# Altium footprint library Con DIN 41612.PcbLib: 47 footprints (part 1 of 3)
Each footprint in its own frame and in the unit in brackets; x right, y up, seen from the top. Pads: shape width x height; smd on the part's side, far side on the other; paste and mask are expansions set on the pad; w line width, h text height; cw(c..) or ccw(c..) is an arc to the next point about the centre after c.
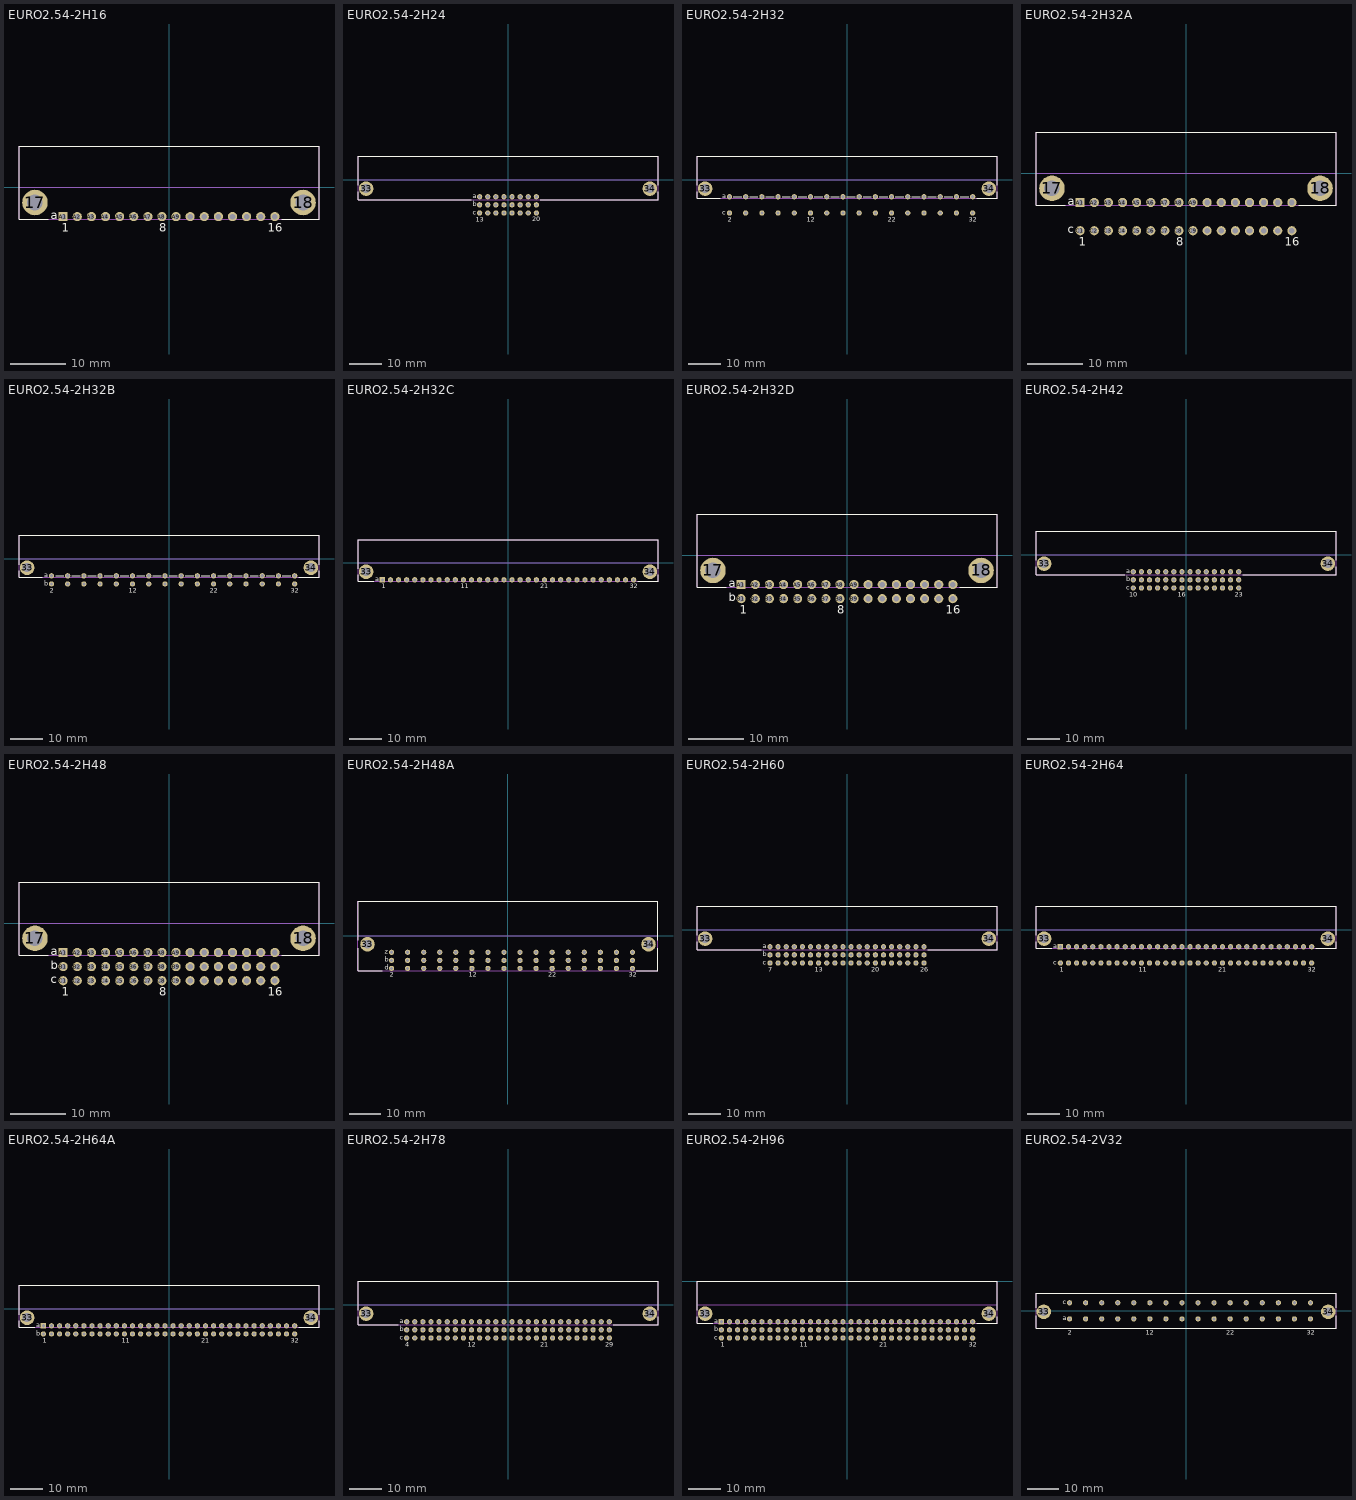
[diagram p0: the footprints below, top view; thin cyan lines are the x and y axes]

## EURO2.54-2H16 [mm] "Connector; DIN 41612, Type 2B, Thru-Hole; Row a, 16 Position; Right Angle"
height 8.6
pads (18):
  round 4.6 hole 2.8: 17(-24.13,-2.76) 18(24.13,-2.76)
  rect 1.65x1.65 hole 1: A1(-19.05,-5.3)
  round 1.65 hole 1: A2(-16.51,-5.3) A3(-13.97,-5.3) A4(-11.43,-5.3) A5(-8.89,-5.3) A6(-6.35,-5.3) A7(-3.81,-5.3) A8(-1.27,-5.3) A9(1.27,-5.3) A10(3.81,-5.3) A11(6.35,-5.3) A12(8.89,-5.3) A13(11.43,-5.3) A14(13.97,-5.3) A15(16.51,-5.3) A16(19.05,-5.3)
Top Overlay:
  lines w0.2: -21.75,-5.8 -27,-5.8 -27,7.34 27,7.34 27,-5.8 20.275,-5.8
  text "16" at 17.8,-8 h1.5
  text "8" at -1.77,-8 h1.5
  text "a" at -21.26,-5.8 h1.5
  text "1" at -19.3,-8 h1.5
Mechanical 1:
  lines w0.1: -27,0 27,0
  text "PCB Edge" at -26.15,0.5 h0.6
Mechanical 13:
  lines w0.1: -27,-5.8 27,-5.8 27,7.34 -27,7.34 -27,-5.8
3D body: height 8.6, standoff 0, extent -27,-5.8 27,7.34

## EURO2.54-2H24 [mm] "Connector; DIN 41612, Type M, Thru-Hole; Rows a+b+c, 24 Position; Right Angle"
height 11.1
pads (26):
  round 4.6 hole 2.8: 33(-44.45,-2.76) 34(44.45,-2.76)
  round 1.65 hole 1: A13(-8.89,-5.3) A14(-6.35,-5.3) A15(-3.81,-5.3) A16(-1.27,-5.3) A17(1.27,-5.3) A18(3.81,-5.3) A19(6.35,-5.3) A20(8.89,-5.3) B13(-8.89,-7.84) B14(-6.35,-7.84) B15(-3.81,-7.84) B16(-1.27,-7.84) B17(1.27,-7.84) B18(3.81,-7.84) B19(6.35,-7.84) B20(8.89,-7.84) C13(-8.89,-10.38) C14(-6.35,-10.38) C15(-3.81,-10.38) C16(-1.27,-10.38) C17(1.27,-10.38) C18(3.81,-10.38) C19(6.35,-10.38) C20(8.89,-10.38)
Top Overlay:
  lines w0.2: -47,-3.76 -47,-6.3 -11.59,-6.3 ; -47,-1.76 -47,7.34 47,7.34 47,-1.76 ; 10.115,-6.3 47,-6.3 47,-3.76
  text "13" at -10.14,-13.08 h1.5
  text "a" at -11.1,-5.8 h1.5
  text "b" at -11.1,-8.34 h1.5
  text "c" at -11.1,-10.88 h1.5
  text "20" at 7.64,-12.92 h1.5
Mechanical 1:
  lines w0.1: -47,0 47,0
  text "PCB Edge" at -46.47,0.5 h0.6
Mechanical 13:
  lines w0.1: -47,-6.3 -47,7.34 47,7.34 47,-6.3 -47,-6.3
3D body: height 11.1, standoff 0, extent -47,-6.3 47,7.34

## EURO2.54-2H32 [mm] "Connector; DIN 41612, Type C, Thru-Hole; Rows a+c, 32 Position; Right Angle"
height 11.1
pads (34):
  round 4.6 hole 2.8: 33(-44.45,-2.76) 34(44.45,-2.76)
  round 1.65 hole 1: A2(-36.83,-5.3) A4(-31.75,-5.3) A6(-26.67,-5.3) A8(-21.59,-5.3) A10(-16.51,-5.3) A12(-11.43,-5.3) A14(-6.35,-5.3) A16(-1.27,-5.3) A18(3.81,-5.3) A20(8.89,-5.3) A22(13.97,-5.3) A24(19.05,-5.3) A26(24.13,-5.3) A28(29.21,-5.3) A30(34.29,-5.3) A32(39.37,-5.3) C2(-36.83,-10.38) C4(-31.75,-10.38) C6(-26.67,-10.38) C8(-21.59,-10.38) C10(-16.51,-10.38) C12(-11.43,-10.38) C14(-6.35,-10.38) C16(-1.27,-10.38) C18(3.81,-10.38) C20(8.89,-10.38) C22(13.97,-10.38) C24(19.05,-10.38) C26(24.13,-10.38) C28(29.21,-10.38) C30(34.29,-10.38) C32(39.37,-10.38)
Top Overlay:
  lines w0.2: -47,-1.76 -47,7.34 47,7.34 47,-1.76 ; -46.99,-3.76 -46.99,-5.8 -39.69,-5.8 ; -35.605,-5.3 -32.975,-5.3 ; -30.525,-5.3 -27.895,-5.3 ; -25.445,-5.3 -22.815,-5.3 ; -20.365,-5.3 -17.735,-5.3 ; -15.285,-5.3 -12.655,-5.3 ; -10.205,-5.3 -7.575,-5.3 ; -5.125,-5.3 -2.495,-5.3 ; -0.045,-5.3 2.585,-5.3 ; 5.035,-5.3 7.665,-5.3 ; 10.115,-5.3 12.745,-5.3 ; 15.195,-5.3 17.825,-5.3 ; 20.275,-5.3 22.905,-5.3 ; 25.355,-5.3 27.985,-5.3 ; 30.435,-5.3 33.065,-5.3 ; 35.515,-5.3 38.145,-5.3 ; 40.595,-5.8 47,-5.8 47,-3.76
  text "22" at 12.72,-13.08 h1.5
  text "12" at -12.68,-13.08 h1.5
  text "32" at 38.12,-13.08 h1.5
  text "c" at -39.04,-10.88 h1.5
  text "a" at -39.04,-5.8 h1.5
  text "2" at -37.33,-13.08 h1.5
Mechanical 1:
  lines w0.1: -47,0 47,0
  text "PCB Edge" at -46.47,0.5 h0.6
Mechanical 13:
  lines w0.1: -47,-5.8 -47,7.34 47,7.34 47,-5.8 -47,-5.8
3D body: height 11.1, standoff 0, extent -47,-5.8 47,7.34

## EURO2.54-2H32A [mm] "Connector; DIN 41612, Type 2C, Thru-Hole; Rows a+c, 32 Position; Right Angle"
height 11.1
pads (34):
  round 4.6 hole 2.8: 17(-24.13,-2.76) 18(24.13,-2.76)
  rect 1.65x1.65 hole 1: A1(-19.05,-5.3)
  round 1.65 hole 1: A2(-16.51,-5.3) A3(-13.97,-5.3) A4(-11.43,-5.3) A5(-8.89,-5.3) A6(-6.35,-5.3) A7(-3.81,-5.3) A8(-1.27,-5.3) A9(1.27,-5.3) A10(3.81,-5.3) A11(6.35,-5.3) A12(8.89,-5.3) A13(11.43,-5.3) A14(13.97,-5.3) A15(16.51,-5.3) A16(19.05,-5.3) C1(-19.05,-10.38) C2(-16.51,-10.38) C3(-13.97,-10.38) C4(-11.43,-10.38) C5(-8.89,-10.38) C6(-6.35,-10.38) C7(-3.81,-10.38) C8(-1.27,-10.38) C9(1.27,-10.38) C10(3.81,-10.38) C11(6.35,-10.38) C12(8.89,-10.38) C13(11.43,-10.38) C14(13.97,-10.38) C15(16.51,-10.38) C16(19.05,-10.38)
Top Overlay:
  lines w0.2: -21.75,-5.8 -27,-5.8 -27,7.34 27,7.34 27,-5.8 20.275,-5.8
  text "16" at 17.8,-13.08 h1.5
  text "8" at -1.77,-13.08 h1.5
  text "c" at -21.26,-10.88 h1.5
  text "a" at -21.26,-5.8 h1.5
  text "1" at -19.3,-13.08 h1.5
Mechanical 1:
  lines w0.1: -27,0 27,0
  text "PCB Edge" at -26.15,0.5 h0.6
Mechanical 13:
  lines w0.1: -27,-5.8 -27,7.34 27,7.34 27,-5.8 -27,-5.8
3D body: height 11.1, standoff 0, extent -27,-5.8 27,7.34

## EURO2.54-2H32B [mm] "Connector; DIN 41612, Type B, Thru-Hole; Rows a+b, 32 Position; Right Angle"
height 8.6
pads (34):
  round 4.6 hole 2.8: 33(-44.45,-2.76) 34(44.45,-2.76)
  round 1.65 hole 1: A2(-36.83,-5.3) A4(-31.75,-5.3) A6(-26.67,-5.3) A8(-21.59,-5.3) A10(-16.51,-5.3) A12(-11.43,-5.3) A14(-6.35,-5.3) A16(-1.27,-5.3) A18(3.81,-5.3) A20(8.89,-5.3) A22(13.97,-5.3) A24(19.05,-5.3) A26(24.13,-5.3) A28(29.21,-5.3) A30(34.29,-5.3) A32(39.37,-5.3) B2(-36.83,-7.84) B4(-31.75,-7.84) B6(-26.67,-7.84) B8(-21.59,-7.84) B10(-16.51,-7.84) B12(-11.43,-7.84) B14(-6.35,-7.84) B16(-1.27,-7.84) B18(3.81,-7.84) B20(8.89,-7.84) B22(13.97,-7.84) B24(19.05,-7.84) B26(24.13,-7.84) B28(29.21,-7.84) B30(34.29,-7.84) B32(39.37,-7.84)
Top Overlay:
  lines w0.2: -47,-3.76 -47,-5.8 -39.7,-5.8 ; -47,-1.76 -47,7.34 47,7.34 47,-1.76 ; -35.56,-5.3 -32.93,-5.3 ; -30.48,-5.3 -27.85,-5.3 ; -25.4,-5.3 -22.77,-5.3 ; -20.32,-5.3 -17.69,-5.3 ; -15.24,-5.3 -12.61,-5.3 ; -10.16,-5.3 -7.53,-5.3 ; -5.08,-5.3 -2.45,-5.3 ; 0,-5.3 2.63,-5.3 ; 5.08,-5.3 7.71,-5.3 ; 10.16,-5.3 12.79,-5.3 ; 15.24,-5.3 17.87,-5.3 ; 20.32,-5.3 22.95,-5.3 ; 25.4,-5.3 28.03,-5.3 ; 30.48,-5.3 33.11,-5.3 ; 35.56,-5.3 38.19,-5.3 ; 40.595,-5.8 47,-5.8 47,-3.76
  text "2" at -37.33,-10.54 h1.5
  text "a" at -39.04,-5.8 h1.5
  text "b" at -39.04,-8.34 h1.5
  text "32" at 38.12,-10.54 h1.5
  text "12" at -12.68,-10.54 h1.5
  text "22" at 12.72,-10.54 h1.5
Mechanical 1:
  lines w0.1: -47,0 47,0
  text "PCB Edge" at -46.47,0.5 h0.6
Mechanical 13:
  lines w0.1: -47,-5.8 -47,7.34 47,7.34 47,-5.8 -47,-5.8
3D body: height 8.6, standoff 0, extent -47,-5.8 47,7.34

## EURO2.54-2H32C [mm] "Connector; DIN 41612, Type B, Thru-Hole; Row a, 32 Position; Right Angle"
height 8.6
pads (34):
  round 4.6 hole 2.8: 33(-44.45,-2.76) 34(44.45,-2.76)
  rect 1.65x1.65 hole 1: A1(-39.37,-5.3)
  round 1.65 hole 1: A2(-36.83,-5.3) A3(-34.29,-5.3) A4(-31.75,-5.3) A5(-29.21,-5.3) A6(-26.67,-5.3) A7(-24.13,-5.3) A8(-21.59,-5.3) A9(-19.05,-5.3) A10(-16.51,-5.3) A11(-13.97,-5.3) A12(-11.43,-5.3) A13(-8.89,-5.3) A14(-6.35,-5.3) A15(-3.81,-5.3) A16(-1.27,-5.3) A17(1.27,-5.3) A18(3.81,-5.3) A19(6.35,-5.3) A20(8.89,-5.3) A21(11.43,-5.3) A22(13.97,-5.3) A23(16.51,-5.3) A24(19.05,-5.3) A25(21.59,-5.3) A26(24.13,-5.3) A27(26.67,-5.3) A28(29.21,-5.3) A29(31.75,-5.3) A30(34.29,-5.3) A31(36.83,-5.3) A32(39.37,-5.3)
Top Overlay:
  lines w0.2: -47,-3.76 -47,-5.8 -42.07,-5.8 ; -47,-1.76 -47,7.34 47,7.34 47,-1.76 ; 40.595,-5.8 47,-5.8 47,-3.76
  text "21" at 10.18,-8 h1.5
  text "11" at -14.845,-8 h1.5
  text "32" at 38.12,-8 h1.5
  text "a" at -41.58,-5.8 h1.5
  text "1" at -39.62,-8 h1.5
Mechanical 1:
  lines w0.1: -47,0 47,0
  text "PCB Edge" at -46.47,0.5 h0.6
Mechanical 13:
  lines w0.1: -47,-5.8 -47,7.34 47,7.34 47,-5.8 -47,-5.8
3D body: height 8.6, standoff 0, extent -47,-5.8 47,7.34

## EURO2.54-2H32D [mm] "Connector; DIN 41612, Type 2B, Thru-Hole; Rows a+b, 32 Position; Right Angle"
height 8.6
pads (34):
  round 4.6 hole 2.8: 17(-24.13,-2.76) 18(24.13,-2.76)
  rect 1.65x1.65 hole 1: A1(-19.05,-5.3)
  round 1.65 hole 1: A2(-16.51,-5.3) A3(-13.97,-5.3) A4(-11.43,-5.3) A5(-8.89,-5.3) A6(-6.35,-5.3) A7(-3.81,-5.3) A8(-1.27,-5.3) A9(1.27,-5.3) A10(3.81,-5.3) A11(6.35,-5.3) A12(8.89,-5.3) A13(11.43,-5.3) A14(13.97,-5.3) A15(16.51,-5.3) A16(19.05,-5.3) B1(-19.05,-7.84) B2(-16.51,-7.84) B3(-13.97,-7.84) B4(-11.43,-7.84) B5(-8.89,-7.84) B6(-6.35,-7.84) B7(-3.81,-7.84) B8(-1.27,-7.84) B9(1.27,-7.84) B10(3.81,-7.84) B11(6.35,-7.84) B12(8.89,-7.84) B13(11.43,-7.84) B14(13.97,-7.84) B15(16.51,-7.84) B16(19.05,-7.84)
Top Overlay:
  lines w0.2: -21.75,-5.8 -27,-5.8 -27,7.34 27,7.34 27,-5.8 20.275,-5.8
  text "1" at -19.3,-10.54 h1.5
  text "a" at -21.26,-5.8 h1.5
  text "b" at -21.26,-8.34 h1.5
  text "8" at -1.77,-10.54 h1.5
  text "16" at 17.8,-10.54 h1.5
Mechanical 1:
  lines w0.1: -27,0 27,0
  text "PCB Edge" at -26.15,0.5 h0.6
Mechanical 13:
  lines w0.1: -27,-5.8 -27,7.34 27,7.34 27,-5.8 -27,-5.8
3D body: height 8.6, standoff 0, extent -27,-5.8 27,7.34

## EURO2.54-2H42 [mm] "Connector; DIN 41612, Type M, Thru-Hole; Rows a+b+c, 42 Position; Right Angle"
height 11.1
pads (44):
  round 4.6 hole 2.8: 33(-44.45,-2.76) 34(44.45,-2.76)
  round 1.65 hole 1: A10(-16.51,-5.3) A11(-13.97,-5.3) A12(-11.43,-5.3) A13(-8.89,-5.3) A14(-6.35,-5.3) A15(-3.81,-5.3) A16(-1.27,-5.3) A17(1.27,-5.3) A18(3.81,-5.3) A19(6.35,-5.3) A20(8.89,-5.3) A21(11.43,-5.3) A22(13.97,-5.3) A23(16.51,-5.3) B10(-16.51,-7.84) B11(-13.97,-7.84) B12(-11.43,-7.84) B13(-8.89,-7.84) B14(-6.35,-7.84) B15(-3.81,-7.84) B16(-1.27,-7.84) B17(1.27,-7.84) B18(3.81,-7.84) B19(6.35,-7.84) B20(8.89,-7.84) B21(11.43,-7.84) B22(13.97,-7.84) B23(16.51,-7.84) C10(-16.51,-10.38) C11(-13.97,-10.38) C12(-11.43,-10.38) C13(-8.89,-10.38) C14(-6.35,-10.38) C15(-3.81,-10.38) C16(-1.27,-10.38) C17(1.27,-10.38) C18(3.81,-10.38) C19(6.35,-10.38) C20(8.89,-10.38) C21(11.43,-10.38) C22(13.97,-10.38) C23(16.51,-10.38)
Top Overlay:
  lines w0.2: -47,-3.76 -47,-6.3 -19.21,-6.3 ; -47,-1.76 -47,7.34 47,7.34 47,-1.76 ; 17.735,-6.3 47,-6.3 47,-3.76
  text "10" at -17.76,-13.08 h1.5
  text "a" at -18.72,-5.8 h1.5
  text "b" at -18.72,-8.34 h1.5
  text "c" at -18.72,-10.88 h1.5
  text "23" at 15.26,-13.08 h1.5
  text "16" at -2.52,-13.08 h1.5
Mechanical 1:
  lines w0.1: -47,0 47,0
  text "PCB Edge" at -46.47,0.5 h0.6
Mechanical 13:
  lines w0.1: -47,-6.3 -47,7.34 47,7.34 47,-6.3 -47,-6.3
3D body: height 11.1, standoff 0, extent -47,-6.3 47,7.34

## EURO2.54-2H48 [mm] "Connector; DIN 41612, Type 2C, Thru-Hole; Rows a+b+c, 48 Position; Right Angle"
height 11.1
pads (50):
  round 4.6 hole 2.8: 17(-24.13,-2.76) 18(24.13,-2.76)
  rect 1.65x1.65 hole 1: A1(-19.05,-5.3)
  round 1.65 hole 1: A2(-16.51,-5.3) A3(-13.97,-5.3) A4(-11.43,-5.3) A5(-8.89,-5.3) A6(-6.35,-5.3) A7(-3.81,-5.3) A8(-1.27,-5.3) A9(1.27,-5.3) A10(3.81,-5.3) A11(6.35,-5.3) A12(8.89,-5.3) A13(11.43,-5.3) A14(13.97,-5.3) A15(16.51,-5.3) A16(19.05,-5.3) B1(-19.05,-7.84) B2(-16.51,-7.84) B3(-13.97,-7.84) B4(-11.43,-7.84) B5(-8.89,-7.84) B6(-6.35,-7.84) B7(-3.81,-7.84) B8(-1.27,-7.84) B9(1.27,-7.84) B10(3.81,-7.84) B11(6.35,-7.84) B12(8.89,-7.84) B13(11.43,-7.84) B14(13.97,-7.84) B15(16.51,-7.84) B16(19.05,-7.84) C1(-19.05,-10.38) C2(-16.51,-10.38) C3(-13.97,-10.38) C4(-11.43,-10.38) C5(-8.89,-10.38) C6(-6.35,-10.38) C7(-3.81,-10.38) C8(-1.27,-10.38) C9(1.27,-10.38) C10(3.81,-10.38) C11(6.35,-10.38) C12(8.89,-10.38) C13(11.43,-10.38) C14(13.97,-10.38) C15(16.51,-10.38) C16(19.05,-10.38)
Top Overlay:
  lines w0.2: -21.75,-5.8 -27,-5.8 -27,7.34 27,7.34 27,-5.8 20.275,-5.8
  text "1" at -19.3,-13.08 h1.5
  text "a" at -21.26,-5.8 h1.5
  text "b" at -21.26,-8.34 h1.5
  text "c" at -21.26,-10.88 h1.5
  text "8" at -1.77,-13.08 h1.5
  text "16" at 17.8,-13.08 h1.5
Mechanical 1:
  lines w0.1: -27,0 27,0
  text "PCB Edge" at -26.15,0.5 h0.6
Mechanical 13:
  lines w0.1: -27,-5.8 -27,7.34 27,7.34 27,-5.8 -27,-5.8
3D body: height 11.1, standoff 0, extent -27,-5.8 27,7.34

## EURO2.54-2H48A [mm] "Connector; DIN 41612, Type F, Thru-Hole; Rows z+b+d, 48 Position; Right Angle"
height 14.8
pads (50):
  round 4.6 hole 2.8: 33(-44.45,-2.76) 34(44.45,-2.76)
  round 1.65 hole 1: B2(-36.83,-7.84) B4(-31.75,-7.84) B6(-26.67,-7.84) B8(-21.59,-7.84) B10(-16.51,-7.84) B12(-11.43,-7.84) B14(-6.35,-7.84) B16(-1.27,-7.84) B18(3.81,-7.84) B20(8.89,-7.84) B22(13.97,-7.84) B24(19.05,-7.84) B26(24.13,-7.84) B28(29.21,-7.84) B30(34.29,-7.84) B32(39.37,-7.84) D2(-36.83,-10.38) D4(-31.75,-10.38) D6(-26.67,-10.38) D8(-21.59,-10.38) D10(-16.51,-10.38) D12(-11.43,-10.38) D14(-6.35,-10.38) D16(-1.27,-10.38) D18(3.81,-10.38) D20(8.89,-10.38) D22(13.97,-10.38) D24(19.05,-10.38) D26(24.13,-10.38) D28(29.21,-10.38) D30(34.29,-10.38) D32(39.37,-10.38) Z2(-36.83,-5.3) Z4(-31.75,-5.3) Z6(-26.67,-5.3) Z8(-21.59,-5.3) Z10(-16.51,-5.3) Z12(-11.43,-5.3) Z14(-6.35,-5.3) Z16(-1.27,-5.3) Z18(3.81,-5.3) Z20(8.89,-5.3) Z22(13.97,-5.3) Z24(19.05,-5.3) Z26(24.13,-5.3) Z28(29.21,-5.3) Z30(34.29,-5.3) Z32(39.37,-5.3)
Top Overlay:
  lines w0.2: -47.45,-3.96 -47.45,-11.2 -39.7,-11.2 ; -47.449,-1.56 -47.449,10.9 47.45,10.9 47.45,-1.56 ; 40.595,-11.2 47.45,-11.2 47.45,-3.96
  text "2" at -37.33,-13.08 h1.5
  text "z" at -39.04,-5.8 h1.5
  text "b" at -39.04,-8.34 h1.5
  text "d" at -39.04,-10.88 h1.5
  text "32" at 38.12,-13.08 h1.5
  text "12" at -12.43,-13.08 h1.5
  text "22" at 12.72,-13.08 h1.5
Mechanical 1:
  lines w0.1: -47.45,0 47.45,0
  text "PCB Edge" at -46.47,0.5 h0.6
Mechanical 13:
  lines w0.1: -47.45,-11.2 -47.45,10.9 47.45,10.9 47.45,-11.2 -47.45,-11.2
3D body: height 14.8, standoff 0, extent -47.45,-11.2 47.45,10.9

## EURO2.54-2H60 [mm] "Connector; DIN 41612, Type M, Thru-Hole; Rows a+b+c, 60 Position; Right Angle"
height 11.1
pads (62):
  round 4.6 hole 2.8: 33(-44.45,-2.76) 34(44.45,-2.76)
  round 1.65 hole 1: A7(-24.13,-5.3) A8(-21.59,-5.3) A9(-19.05,-5.3) A10(-16.51,-5.3) A11(-13.97,-5.3) A12(-11.43,-5.3) A13(-8.89,-5.3) A14(-6.35,-5.3) A15(-3.81,-5.3) A16(-1.27,-5.3) A17(1.27,-5.3) A18(3.81,-5.3) A19(6.35,-5.3) A20(8.89,-5.3) A21(11.43,-5.3) A22(13.97,-5.3) A23(16.51,-5.3) A24(19.05,-5.3) A25(21.59,-5.3) A26(24.13,-5.3) B7(-24.13,-7.84) B8(-21.59,-7.84) B9(-19.05,-7.84) B10(-16.51,-7.84) B11(-13.97,-7.84) B12(-11.43,-7.84) B13(-8.89,-7.84) B14(-6.35,-7.84) B15(-3.81,-7.84) B16(-1.27,-7.84) B17(1.27,-7.84) B18(3.81,-7.84) B19(6.35,-7.84) B20(8.89,-7.84) B21(11.43,-7.84) B22(13.97,-7.84) B23(16.51,-7.84) B24(19.05,-7.84) B25(21.59,-7.84) B26(24.13,-7.84) C7(-24.13,-10.38) C8(-21.59,-10.38) C9(-19.05,-10.38) C10(-16.51,-10.38) C11(-13.97,-10.38) C12(-11.43,-10.38) C13(-8.89,-10.38) C14(-6.35,-10.38) C15(-3.81,-10.38) C16(-1.27,-10.38) C17(1.27,-10.38) C18(3.81,-10.38) C19(6.35,-10.38) C20(8.89,-10.38) C21(11.43,-10.38) C22(13.97,-10.38) C23(16.51,-10.38) C24(19.05,-10.38) C25(21.59,-10.38) C26(24.13,-10.38)
Top Overlay:
  lines w0.2: -47,-3.76 -47,-6.3 -26.83,-6.3 ; -47,-1.76 -47,7.34 47,7.34 47,-1.76 ; 25.355,-6.3 47,-6.3 47,-3.76
  text "20" at 7.64,-13.08 h1.5
  text "13" at -10.14,-13.08 h1.5
  text "26" at 22.88,-13.08 h1.5
  text "c" at -26.34,-10.88 h1.5
  text "b" at -26.34,-8.34 h1.5
  text "a" at -26.34,-5.8 h1.5
  text "7" at -24.63,-13.08 h1.5
Mechanical 1:
  lines w0.1: -47,0 47,0
  text "PCB Edge" at -46.47,0.5 h0.6
Mechanical 13:
  lines w0.1: -47,-6.3 -47,7.34 47,7.34 47,-6.3 -47,-6.3
3D body: height 11.1, standoff 0, extent -47,-6.3 47,7.34

## EURO2.54-2H64 [mm] "Connector; DIN 41612, Type C, Thru-Hole; Rows a+c, 64 Position; Right Angle"
height 11.1
pads (66):
  round 4.6 hole 2.8: 33(-44.45,-2.76) 34(44.45,-2.76)
  rect 1.65x1.65 hole 1: A1(-39.37,-5.3)
  round 1.65 hole 1: A2(-36.83,-5.3) A3(-34.29,-5.3) A4(-31.75,-5.3) A5(-29.21,-5.3) A6(-26.67,-5.3) A7(-24.13,-5.3) A8(-21.59,-5.3) A9(-19.05,-5.3) A10(-16.51,-5.3) A11(-13.97,-5.3) A12(-11.43,-5.3) A13(-8.89,-5.3) A14(-6.35,-5.3) A15(-3.81,-5.3) A16(-1.27,-5.3) A17(1.27,-5.3) A18(3.81,-5.3) A19(6.35,-5.3) A20(8.89,-5.3) A21(11.43,-5.3) A22(13.97,-5.3) A23(16.51,-5.3) A24(19.05,-5.3) A25(21.59,-5.3) A26(24.13,-5.3) A27(26.67,-5.3) A28(29.21,-5.3) A29(31.75,-5.3) A30(34.29,-5.3) A31(36.83,-5.3) A32(39.37,-5.3) C1(-39.37,-10.38) C2(-36.83,-10.38) C3(-34.29,-10.38) C4(-31.75,-10.38) C5(-29.21,-10.38) C6(-26.67,-10.38) C7(-24.13,-10.38) C8(-21.59,-10.38) C9(-19.05,-10.38) C10(-16.51,-10.38) C11(-13.97,-10.38) C12(-11.43,-10.38) C13(-8.89,-10.38) C14(-6.35,-10.38) C15(-3.81,-10.38) C16(-1.27,-10.38) C17(1.27,-10.38) C18(3.81,-10.38) C19(6.35,-10.38) C20(8.89,-10.38) C21(11.43,-10.38) C22(13.97,-10.38) C23(16.51,-10.38) C24(19.05,-10.38) C25(21.59,-10.38) C26(24.13,-10.38) C27(26.67,-10.38) C28(29.21,-10.38) C29(31.75,-10.38) C30(34.29,-10.38) C31(36.83,-10.38) C32(39.37,-10.38)
Top Overlay:
  lines w0.2: -47,-3.76 -47,-5.8 -42.07,-5.8 ; -47,-1.76 -47,7.34 47,7.34 47,-1.76 ; 40.595,-5.8 47,-5.8 47,-3.76
  text "1" at -39.62,-13.08 h1.5
  text "a" at -41.58,-5.8 h1.5
  text "c" at -41.58,-10.88 h1.5
  text "32" at 38.12,-13.08 h1.5
  text "11" at -14.845,-13.08 h1.5
  text "21" at 10.18,-13.08 h1.5
Mechanical 1:
  lines w0.1: -47,0 47,0
  text "PCB Edge" at -46.47,0.5 h0.6
Mechanical 13:
  lines w0.1: -47,-5.8 -47,7.34 47,7.34 47,-5.8 -47,-5.8
3D body: height 11.1, standoff 0, extent -47,-5.8 47,7.34

## EURO2.54-2H64A [mm] "Connector; DIN 41612, Type B, Thru-Hole; Rows a+b, 64 Position; Right Angle"
height 8.6
pads (66):
  round 4.6 hole 2.8: 33(-44.45,-2.76) 34(44.45,-2.76)
  rect 1.65x1.65 hole 1: A1(-39.37,-5.3)
  round 1.65 hole 1: A2(-36.83,-5.3) A3(-34.29,-5.3) A4(-31.75,-5.3) A5(-29.21,-5.3) A6(-26.67,-5.3) A7(-24.13,-5.3) A8(-21.59,-5.3) A9(-19.05,-5.3) A10(-16.51,-5.3) A11(-13.97,-5.3) A12(-11.43,-5.3) A13(-8.89,-5.3) A14(-6.35,-5.3) A15(-3.81,-5.3) A16(-1.27,-5.3) A17(1.27,-5.3) A18(3.81,-5.3) A19(6.35,-5.3) A20(8.89,-5.3) A21(11.43,-5.3) A22(13.97,-5.3) A23(16.51,-5.3) A24(19.05,-5.3) A25(21.59,-5.3) A26(24.13,-5.3) A27(26.67,-5.3) A28(29.21,-5.3) A29(31.75,-5.3) A30(34.29,-5.3) A31(36.83,-5.3) A32(39.37,-5.3) B1(-39.37,-7.84) B2(-36.83,-7.84) B3(-34.29,-7.84) B4(-31.75,-7.84) B5(-29.21,-7.84) B6(-26.67,-7.84) B7(-24.13,-7.84) B8(-21.59,-7.84) B9(-19.05,-7.84) B10(-16.51,-7.84) B11(-13.97,-7.84) B12(-11.43,-7.84) B13(-8.89,-7.84) B14(-6.35,-7.84) B15(-3.81,-7.84) B16(-1.27,-7.84) B17(1.27,-7.84) B18(3.81,-7.84) B19(6.35,-7.84) B20(8.89,-7.84) B21(11.43,-7.84) B22(13.97,-7.84) B23(16.51,-7.84) B24(19.05,-7.84) B25(21.59,-7.84) B26(24.13,-7.84) B27(26.67,-7.84) B28(29.21,-7.84) B29(31.75,-7.84) B30(34.29,-7.84) B31(36.83,-7.84) B32(39.37,-7.84)
Top Overlay:
  lines w0.2: -47,-3.76 -47,-5.8 -42.07,-5.8 ; -47,-1.76 -47,7.34 47,7.34 47,-1.76 ; 40.595,-5.8 47,-5.8 47,-3.76
  text "1" at -39.62,-10.54 h1.5
  text "a" at -41.58,-5.8 h1.5
  text "b" at -41.58,-8.34 h1.5
  text "32" at 38.12,-10.54 h1.5
  text "11" at -14.845,-10.54 h1.5
  text "21" at 10.18,-10.54 h1.5
Mechanical 1:
  lines w0.1: -47,0 47,0
  text "PCB Edge" at -46.47,0.5 h0.6
Mechanical 13:
  lines w0.1: -47,-5.8 -47,7.34 47,7.34 47,-5.8 -47,-5.8
3D body: height 8.6, standoff 0, extent -47,-5.8 47,7.34

## EURO2.54-2H78 [mm] "Connector; DIN 41612, Type M, Thru-Hole; Rows a+b+c, 78 Position; Right Angle"
height 11.1
pads (80):
  round 4.6 hole 2.8: 33(-44.45,-2.76) 34(44.45,-2.76)
  round 1.65 hole 1: A4(-31.75,-5.3) A5(-29.21,-5.3) A6(-26.67,-5.3) A7(-24.13,-5.3) A8(-21.59,-5.3) A9(-19.05,-5.3) A10(-16.51,-5.3) A11(-13.97,-5.3) A12(-11.43,-5.3) A13(-8.89,-5.3) A14(-6.35,-5.3) A15(-3.81,-5.3) A16(-1.27,-5.3) A17(1.27,-5.3) A18(3.81,-5.3) A19(6.35,-5.3) A20(8.89,-5.3) A21(11.43,-5.3) A22(13.97,-5.3) A23(16.51,-5.3) A24(19.05,-5.3) A25(21.59,-5.3) A26(24.13,-5.3) A27(26.67,-5.3) A28(29.21,-5.3) A29(31.75,-5.3) B4(-31.75,-7.84) B5(-29.21,-7.84) B6(-26.67,-7.84) B7(-24.13,-7.84) B8(-21.59,-7.84) B9(-19.05,-7.84) B10(-16.51,-7.84) B11(-13.97,-7.84) B12(-11.43,-7.84) B13(-8.89,-7.84) B14(-6.35,-7.84) B15(-3.81,-7.84) B16(-1.27,-7.84) B17(1.27,-7.84) B18(3.81,-7.84) B19(6.35,-7.84) B20(8.89,-7.84) B21(11.43,-7.84) B22(13.97,-7.84) B23(16.51,-7.84) B24(19.05,-7.84) B25(21.59,-7.84) B26(24.13,-7.84) B27(26.67,-7.84) B28(29.21,-7.84) B29(31.75,-7.84) C4(-31.75,-10.38) C5(-29.21,-10.38) C6(-26.67,-10.38) C7(-24.13,-10.38) C8(-21.59,-10.38) C9(-19.05,-10.38) C10(-16.51,-10.38) C11(-13.97,-10.38) C12(-11.43,-10.38) C13(-8.89,-10.38) C14(-6.35,-10.38) C15(-3.81,-10.38) C16(-1.27,-10.38) C17(1.27,-10.38) C18(3.81,-10.38) C19(6.35,-10.38) C20(8.89,-10.38) C21(11.43,-10.38) C22(13.97,-10.38) C23(16.51,-10.38) C24(19.05,-10.38) C25(21.59,-10.38) C26(24.13,-10.38) C27(26.67,-10.38) C28(29.21,-10.38) C29(31.75,-10.38)
Top Overlay:
  lines w0.2: -47,-3.76 -47,-6.3 -34.45,-6.3 ; -47,-1.76 -47,7.34 47,7.34 47,-1.76 ; 32.975,-6.3 47,-6.3 47,-3.76
  text "4" at -32.25,-13.08 h1.5
  text "a" at -33.96,-5.8 h1.5
  text "b" at -33.96,-8.34 h1.5
  text "c" at -33.96,-10.88 h1.5
  text "29" at 30.5,-13.08 h1.5
  text "12" at -12.68,-13.08 h1.5
  text "21" at 10.18,-13.08 h1.5
Mechanical 1:
  lines w0.1: -47,0 47,0
  text "PCB Edge" at -46.47,0.5 h0.6
Mechanical 13:
  lines w0.1: -47,-6.3 -47,7.34 47,7.34 47,-6.3 -47,-6.3
3D body: height 11.1, standoff 0, extent -47,-6.3 47,7.34

## EURO2.54-2H96 [mm] "Connector; DIN 41612, Type C, Thru-Hole; Rows a+b+c, 96 Position; Right Angle"
height 11.1
pads (98):
  round 4.6 hole 2.8: 33(-44.45,-10.1) 34(44.45,-10.1)
  rect 1.65x1.65 hole 1: A1(-39.37,-12.64)
  round 1.65 hole 1: A2(-36.83,-12.64) A3(-34.29,-12.64) A4(-31.75,-12.64) A5(-29.21,-12.64) A6(-26.67,-12.64) A7(-24.13,-12.64) A8(-21.59,-12.64) A9(-19.05,-12.64) A10(-16.51,-12.64) A11(-13.97,-12.64) A12(-11.43,-12.64) A13(-8.89,-12.64) A14(-6.35,-12.64) A15(-3.81,-12.64) A16(-1.27,-12.64) A17(1.27,-12.64) A18(3.81,-12.64) A19(6.35,-12.64) A20(8.89,-12.64) A21(11.43,-12.64) A22(13.97,-12.64) A23(16.51,-12.64) A24(19.05,-12.64) A25(21.59,-12.64) A26(24.13,-12.64) A27(26.67,-12.64) A28(29.21,-12.64) A29(31.75,-12.64) A30(34.29,-12.64) A31(36.83,-12.64) A32(39.37,-12.64) B1(-39.37,-15.18) B2(-36.83,-15.18) B3(-34.29,-15.18) B4(-31.75,-15.18) B5(-29.21,-15.18) B6(-26.67,-15.18) B7(-24.13,-15.18) B8(-21.59,-15.18) B9(-19.05,-15.18) B10(-16.51,-15.18) B11(-13.97,-15.18) B12(-11.43,-15.18) B13(-8.89,-15.18) B14(-6.35,-15.18) B15(-3.81,-15.18) B16(-1.27,-15.18) B17(1.27,-15.18) B18(3.81,-15.18) B19(6.35,-15.18) B20(8.89,-15.18) B21(11.43,-15.18) B22(13.97,-15.18) B23(16.51,-15.18) B24(19.05,-15.18) B25(21.59,-15.18) B26(24.13,-15.18) B27(26.67,-15.18) B28(29.21,-15.18) B29(31.75,-15.18) B30(34.29,-15.18) B31(36.83,-15.18) B32(39.37,-15.18) C1(-39.37,-17.72) C2(-36.83,-17.72) C3(-34.29,-17.72) C4(-31.75,-17.72) C5(-29.21,-17.72) C6(-26.67,-17.72) C7(-24.13,-17.72) C8(-21.59,-17.72) C9(-19.05,-17.72) C10(-16.51,-17.72) C11(-13.97,-17.72) C12(-11.43,-17.72) C13(-8.89,-17.72) C14(-6.35,-17.72) C15(-3.81,-17.72) C16(-1.27,-17.72) C17(1.27,-17.72) C18(3.81,-17.72) C19(6.35,-17.72) C20(8.89,-17.72) C21(11.43,-17.72) C22(13.97,-17.72) C23(16.51,-17.72) C24(19.05,-17.72) C25(21.59,-17.72) C26(24.13,-17.72) C27(26.67,-17.72) C28(29.21,-17.72) C29(31.75,-17.72) C30(34.29,-17.72) C31(36.83,-17.72) C32(39.37,-17.72)
Top Overlay:
  lines w0.2: -47,-11.1 -47,-13.14 -42.07,-13.14 ; -47,-9.1 -47,0 47,0 47,-9.1 ; 40.595,-13.14 47,-13.14 47,-11.1
  text "21" at 10.18,-20.42 h1.5
  text "11" at -14.845,-20.42 h1.5
  text "32" at 38.12,-20.42 h1.5
  text "c" at -41.58,-18.22 h1.5
  text "b" at -41.58,-15.68 h1.5
  text "a" at -41.58,-13.14 h1.5
  text "1" at -39.62,-20.42 h1.5
Mechanical 1:
  lines w0.1: -47,-7.34 47,-7.34
  text "PCB Edge" at -46.47,-6.84 h0.6
Mechanical 13:
  lines w0.1: -47,-13.14 -47,0 47,0 47,-13.14 -47,-13.14
3D body: height 11.1, standoff 0, extent -47,-13.14 47,0

## EURO2.54-2V32 [mm] "Connector; DIN 41612, Type C, Thru-Hole; Rows a+c, 32 Position; Vertical"
height 11.6
pads (34):
  round 4.6 hole 2.8: 33(-45,-0.3) 34(45,-0.3)
  round 1.65 hole 1: A2(-36.83,-2.54) A4(-31.75,-2.54) A6(-26.67,-2.54) A8(-21.59,-2.54) A10(-16.51,-2.54) A12(-11.43,-2.54) A14(-6.35,-2.54) A16(-1.27,-2.54) A18(3.81,-2.54) A20(8.89,-2.54) A22(13.97,-2.54) A24(19.05,-2.54) A26(24.13,-2.54) A28(29.21,-2.54) A30(34.29,-2.54) A32(39.37,-2.54) C2(-36.83,2.54) C4(-31.75,2.54) C6(-26.67,2.54) C8(-21.59,2.54) C10(-16.51,2.54) C12(-11.43,2.54) C14(-6.35,2.54) C16(-1.27,2.54) C18(3.81,2.54) C20(8.89,2.54) C22(13.97,2.54) C24(19.05,2.54) C26(24.13,2.54) C28(29.21,2.54) C30(34.29,2.54) C32(39.37,2.54)
Top Overlay:
  lines w0.2: -47.45,-1.5 -47.45,-5.55 47.45,-5.55 47.45,-1.5 ; -47.45,0.9 -47.45,5.55 47.45,5.55 ; 47.45,0.9 47.45,5.45
  text "2" at -37.33,-7.55 h1.5
  text "a" at -39.04,-3.04 h1.5
  text "c" at -39.04,2.04 h1.5
  text "32" at 38.12,-7.55 h1.5
  text "12" at -12.68,-7.55 h1.5
  text "22" at 12.72,-7.55 h1.5
Mechanical 13:
  lines w0.1: -47.45,-5.55 -47.45,5.55 47.45,5.55 47.45,-5.55 -47.45,-5.55
3D body: height 11.6, standoff 0, extent -47.45,-5.55 47.45,5.55